# EAGLE library part BOSCH-BNO055 (library ClintonLib)
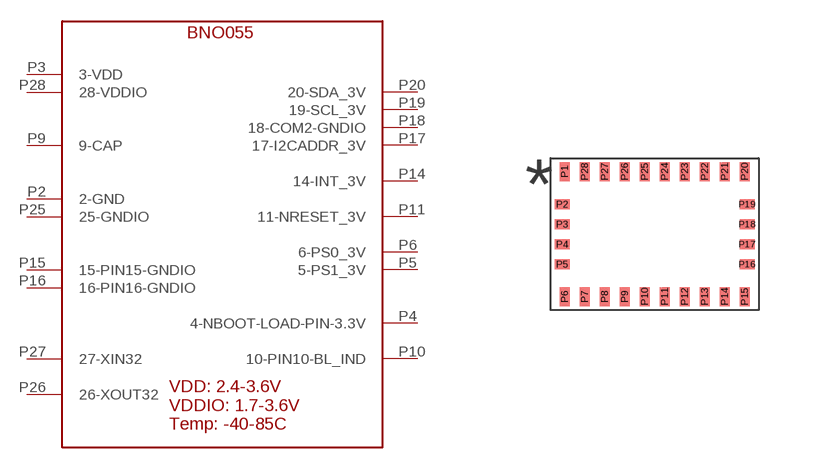
[diagram p3: symbol with the pads of BOSCH-BNO055; footprint BOSCH-BNO055]

Designator prefix -

## BOSCH-BNO055  [BOSCH-BNO055]
P2  2-GND
P3  3-VDD
P4  4-NBOOT-LOAD-PIN-3.3V
P5  5-PS1_3V
P6  6-PS0_3V
P9  9-CAP
P10  10-PIN10-BL_IND
P11  11-NRESET_3V
P14  14-INT_3V
P15  15-PIN15-GNDIO
P16  16-PIN16-GNDIO
P17  17-I2CADDR_3V
P18  18-COM2-GNDIO
P19  19-SCL_3V
P20  20-SDA_3V
P25  25-GNDIO
P26  26-XOUT32
P27  27-XIN32
P28  28-VDDIO

## Footprint BOSCH-BNO055 (pad centres in mm)
Bosch 9-Axis I2C Inertial Measurement Unit with Integrated Sensor Fusion 5v Intolerant. Use logic level shifer (two mosfets make this easy).
smd 0.25 x 0.475: P1 -2.25,1.562; P6 -2.25,-1.562; P7 -1.75,-1.562; P8 -1.25,-1.562; P9 -0.75,-1.562; P10 -0.25,-1.562; P11 0.25,-1.562; P12 0.75,-1.562; P13 1.25,-1.562; P14 1.75,-1.562; P15 2.25,-1.562; P20 2.25,1.562; P21 1.75,1.562; P22 1.25,1.562; P23 0.75,1.562; P24 0.25,1.562; P25 -0.25,1.562; P26 -0.75,1.562; P27 -1.25,1.562; P28 -1.75,1.562
smd 0.375 x 0.25: P2 -2.312,0.75; P3 -2.312,0.25; P4 -2.312,-0.25; P5 -2.312,-0.75; P16 2.312,-0.75; P17 2.312,-0.25; P18 2.312,0.25; P19 2.312,0.75